# Altium integrated library USLPT2819DT2TR (2).IntLib: 1 symbol
Pins are listed as number, name and electrical type; pins without a type are passive.

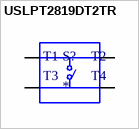
[diagram p0: symbol USLPT2819DT2TR]

## USLPT2819DT2TR
designator S?
TACT ULTRA TB 2.8X1.9X0.6 160GF; MP: USLPT2819DT2TR; Package: None; Value: *; Availability: Unavailable; Price: None
footprint SW_USLPT2819DT2TR
pins: 1 T1, 2 T2, 3 T3, 4 T4